# EAGLE library part LM358DR (library OPL-Eagle-Library)
General purpose LOW Voltage, Rail-to-Rail Output Amplifiers http://www.fairchildsemi.com/ds/LM/LMV358.pdf
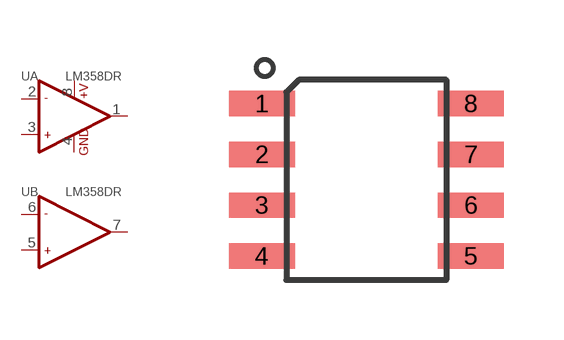
[diagram p14: symbol with the pads of SOIC8; footprint SOIC8]

Designator prefix U; gates A=OPAMP_2 B=OPAMP_2_1

## LM358DR-1110010P1  [SOIC8]
1  A:OUT1  out
2  A:-IN1  in
3  A:+IN1  in
4  A:GND  pwr
5  B:+IN2  in
6  B:-IN2  in
7  B:OUT2  out
8  A:+V  pwr

## Footprint SOIC8 (pad centres in mm)
Small Outline Package
smd 1.651 x 0.635: 1 -2.616,1.905; 2 -2.616,0.635; 3 -2.616,-0.635; 4 -2.616,-1.905; 5 2.616,-1.905; 6 2.616,-0.635; 7 2.616,0.635; 8 2.616,1.905